# Altium schematic symbol library QUTMS_PowerSupplyLibrary.SchLib: 3 symbols
Pins are listed as number, name and electrical type; pins without a type are passive.

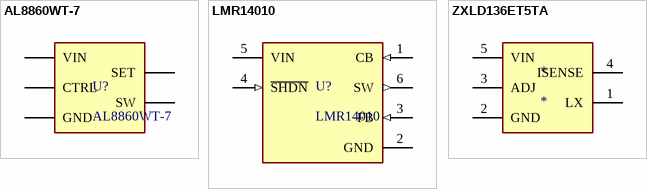
[diagram p0: symbols AL8860WT-7 to ZXLD136ET5TA]

## AL8860WT-7
designator U?
LED Driver, 1 Output, Buck (Step Down), 4.5 V to 40 V in, 1 MHz switch, PWM, 40V/1 A out, TSOT-25-5
footprint TSOT-25
pins: 1 SW (power), 2 GND (power), 3 CTRL (power), 4 SET (power), 5 VIN (power)

## LMR14010
designator U?
footprint LMR14010
pins: 1 CB (in), 2 GND (power), 3 FB (in), 4 ~{SHDN} (in), 5 VIN (power), 6 SW (out)

## ZXLD136ET5TA
designator *
footprint TSOT-25
footprint SOT95P280X100-5N (SOT23, 5-Leads, Body 2.90x2.80mm, Pitch 0.95mm, IPC Medium Density)
pins: 1 LX (power), 2 GND (power), 3 ADJ (power), 4 ISENSE (power), 5 VIN (power)